# Altium schematic symbol library Opto TRIAC.Schlib: 1 symbol
Pins are listed as number, name and electrical type; pins without a type are passive.

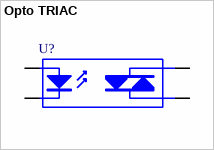
[diagram p0: symbol Opto TRIAC]

## Opto TRIAC
designator U?
Opto-Triac
pins: 1 A, 2 K, 3 A/K, 4 A/K